# Altium footprint library ELVmega.PcbLib: 9 footprints
Each footprint in its own frame and in the unit in brackets; x right, y up, seen from the top. Pads: shape width x height; smd on the part's side, far side on the other; paste and mask are expansions set on the pad; w line width, h text height; cw(c..) or ccw(c..) is an arc to the next point about the centre after c.
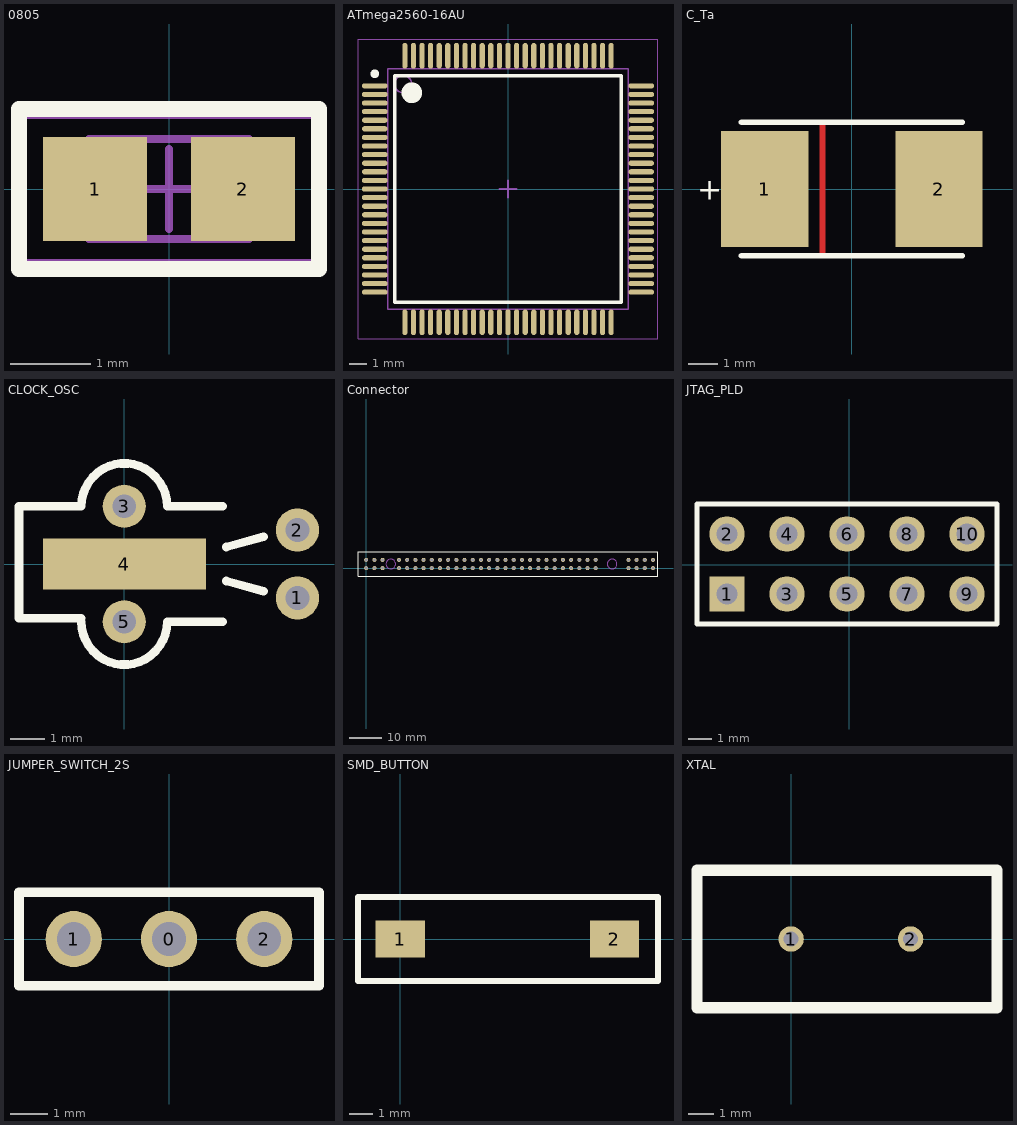
[diagram p0: the footprints below, top view; thin cyan lines are the x and y axes]

## 0805 [mm]
height 0.4
pads (2):
  rect 1.3x1.3 smd: 1(-0.925,0) 2(0.925,0)
Top Overlay:
  lines w0.2: -1.875,-1 1.875,-1 1.875,1 -1.875,1 -1.875,-1
Mechanical 13:
  lines w0.1: -1,-0.625 -1,0.625 1,0.625 1,-0.625 -1,-0.625
Mechanical 15:
  lines w0.05: -1.825,-0.9 -1.825,0.9 1.825,0.9 1.825,-0.9 -1.825,-0.9
  lines w0.1: -0.5,0 0.5,0 ; 0,-0.5 0,0.5
3D body: height 0.4, standoff 0, extent -1,-0.625 1,0.625

## ATmega2560-16AU [mm]
height 1.2
pads (100):
  oval 1.5x0.3 smd: 1(-7.75,6) 2(-7.75,5.5) 3(-7.75,5) 4(-7.75,4.5) 5(-7.75,4) 6(-7.75,3.5) 7(-7.75,3) 8(-7.75,2.5) 9(-7.75,2) 10(-7.75,1.5) 11(-7.75,1) 12(-7.75,0.5) 13(-7.75,0) 14(-7.75,-0.5) 15(-7.75,-1) 16(-7.75,-1.5) 17(-7.75,-2) 18(-7.75,-2.5) 19(-7.75,-3) 20(-7.75,-3.5) 21(-7.75,-4) 22(-7.75,-4.5) 23(-7.75,-5) 24(-7.75,-5.5) 25(-7.75,-6) 51(7.75,-6) 52(7.75,-5.5) 53(7.75,-5) 54(7.75,-4.5) 55(7.75,-4) 56(7.75,-3.5) 57(7.75,-3) 58(7.75,-2.5) 59(7.75,-2) 60(7.75,-1.5) 61(7.75,-1) 62(7.75,-0.5) 63(7.75,0) 64(7.75,0.5) 65(7.75,1) 66(7.75,1.5) 67(7.75,2) 68(7.75,2.5) 69(7.75,3) 70(7.75,3.5) 71(7.75,4) 72(7.75,4.5) 73(7.75,5) 74(7.75,5.5) 75(7.75,6)
  oval 0.3x1.5 smd: 26(-6,-7.75) 27(-5.5,-7.75) 28(-5,-7.75) 29(-4.5,-7.75) 30(-4,-7.75) 31(-3.5,-7.75) 32(-3,-7.75) 33(-2.5,-7.75) 34(-2,-7.75) 35(-1.5,-7.75) 36(-1,-7.75) 37(-0.5,-7.75) 38(0,-7.75) 39(0.5,-7.75) 40(1,-7.75) 41(1.5,-7.75) 42(2,-7.75) 43(2.5,-7.75) 44(3,-7.75) 45(3.5,-7.75) 46(4,-7.75) 47(4.5,-7.75) 48(5,-7.75) 49(5.5,-7.75) 50(6,-7.75) 76(6,7.75) 77(5.5,7.75) 78(5,7.75) 79(4.5,7.75) 80(4,7.75) 81(3.5,7.75) 82(3,7.75) 83(2.5,7.75) 84(2,7.75) 85(1.5,7.75) 86(1,7.75) 87(0.5,7.75) 88(0,7.75) 89(-0.5,7.75) 90(-1,7.75) 91(-1.5,7.75) 92(-2,7.75) 93(-2.5,7.75) 94(-3,7.75) 95(-3.5,7.75) 96(-4,7.75) 97(-4.5,7.75) 98(-5,7.75) 99(-5.5,7.75) 100(-6,7.75)
Top Overlay:
  circle w0.6: c-5.6,5.6 r0.3
  circle w0.25: c-7.75,6.7 r0.125
  lines w0.2: -6.6,-6.6 6.6,-6.6 6.6,6.6 -6.6,6.6 -6.6,-6.6
Mechanical 13:
  circle w0.1: c-6.1,6.1 r0.5
  lines w0.1: -7,-7 7,-7 7,7 -7,7 -7,-7
Mechanical 15:
  lines w0.05: -8.725,-8.725 8.725,-8.725 8.725,8.725 -8.725,8.725 -8.725,-8.725
  lines w0.1: -0.5,0 0.5,0 ; 0,-0.5 0,0.5
3D body: height 1.2, standoff 0.05, extent -7,-7 7,7

## C_Ta [mm]
pads (2):
  rect 3x4 smd: 1(-3,0) 2(3,0)
Top Layer:
  lines w0.2: -1.016,-2.159 -1.016,2.159
Top Overlay:
  lines w0.2: -3.8,-2.3 3.8,-2.3 ; -3.8,2.3 3.8,2.3
  text "+" at -5.334,-0.375 h0.75
3D body "CAPMP7343X430N.stp": height 4.3, standoff 0, extent -3.8,-2.3 3.8,2.3

## CLOCK_OSC [mm]
pads (5):
  round 1.27 hole 0.7: 1(5.1,-1) 2(5.1,1) 3(0,1.7) 5(0,-1.7)
  rect 4.8x1.5 smd mask+0: 4(0,0)
Top Overlay:
  lines w0.254: -1.265,-1.7 ccw(c0,-1.7) 1.265,-1.7 2.9,-1.7 ; -1.265,-1.6 -3.1,-1.6 -3.1,1.7 -1.265,1.7 cw(c0,1.7) 1.265,1.7 2.9,1.7 ; 3,-0.5 4.1,-0.8 ; 3,0.5 4.1,0.8

## Connector [mm] "MCU/FPGA board connector"
pads (64):
  round 1.27 / inner round 0.8 / far side round 1.27 hole 1: 0(0,2.54) 1(2.54,2.54) 2(5.08,2.54) 3(10.16,2.54) 4(12.7,2.54) 5(15.24,2.54) 6(17.78,2.54) 7(20.32,2.54) 8(22.86,2.54) 9(25.4,2.54) 10(27.94,2.54) 11(30.48,2.54) 12(33.02,2.54) 13(35.56,2.54) 14(38.1,2.54) 15(40.64,2.54) 16(43.18,2.54) 17(45.72,2.54) 18(48.26,2.54) 19(50.8,2.54) 20(53.34,2.54) 21(55.88,2.54) 22(58.42,2.54) 23(60.96,2.54) 24(63.5,2.54) 25(66.04,2.54) 26(68.58,2.54) 27(71.12,2.54) 28(81.275,2.54) 29(83.795,2.54) 30(86.325,2.54) 31(88.875,2.54) 32(88.875,0) 33(86.325,0) 34(83.795,0) 35(81.275,0) 36(71.12,0) 37(68.58,0) 38(66.04,0) 39(63.5,0) 40(60.96,0) 41(58.42,0) 42(55.88,0) 43(53.34,0) 44(50.8,0) 45(48.26,0) 46(45.72,0) 47(43.18,0) 48(40.64,0) 49(38.1,0) 50(35.56,0) 51(33.02,0) 52(30.48,0) 53(27.94,0) 54(25.4,0) 55(22.86,0) 56(20.32,0) 57(17.78,0) 58(15.24,0) 59(12.7,0) 60(10.16,0) 61(5.08,0) 62(2.54,0) 63(0,0)
Top Overlay:
  lines w0.254: -2.54,-2.54 -2.54,5.08 90.425,5.08 90.425,-2.54 -2.54,-2.54
Mechanical 1:
  circle w0.254: c76.2,1.271 r1.5
  circle w0.254: c7.62,1.27 r1.5

## JTAG_PLD [mm]
pads (10):
  rect 1.5x1.5 hole 0.9: 1(-5.166,-1.248)
  round 1.5 hole 0.9: 2(-5.166,1.292) 3(-2.626,-1.248) 4(-2.626,1.292) 5(-0.086,-1.248) 6(-0.086,1.292) 7(2.454,-1.248) 8(2.454,1.292) 9(4.994,-1.248) 10(4.994,1.292)
Top Overlay:
  lines w0.2: -6.436,-2.518 -6.436,2.562 6.264,2.562 6.264,-2.518 -6.436,-2.518
3D body "User Library-BoxHeader_2R5W_254P_00D.step": height 9.1, standoff -3.1, extent -10.3,-4.4 10.3,4.4

## JUMPER_SWITCH_2S [mm] "2 state jumper switch"
pads (3):
  round 1.5 hole 0.9: 0(0,0) 1(-2.54,0) 2(2.54,0)
Top Overlay:
  lines w0.254: -4,-1.25 4,-1.25 4,1.25 -4,1.25 -4,-1.25

## SMD_BUTTON [mm]
pads (2):
  rect 2.1x1.6 smd: 1(0,0) 2(9.144,0)
Top Overlay:
  lines w0.254: -1.8,-1.8 -1.8,1.8 11,1.8 11,-1.8 0,-1.8 -1.8,-1.8
3D body "User Library-TD-05.STEP": height 5, standoff 0, extent -0.4,-1.7 9.6,1.8

## XTAL [mm]
pads (2):
  round 1 hole 0.6: 1(0,0) 2(4.7,0)
Top Overlay:
  lines w0.45: -3.7,-2.7 -3.7,-0.2 -3.7,2.7 0.2,2.7 4.8,2.7 8.1,2.7 8.1,-2.7 -3.7,-2.7
3D body "User Library-HC49S.STEP": height 3.63, standoff -1.97, extent -3.411,-2.325 7.761,2.348